# EAGLE library part TVS_ESD_4CH_6P (library !GPLIB_ACTIVE)
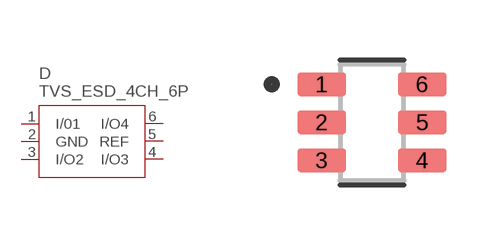
[diagram p93: symbol with the pads of SOT95P280X145-6N; footprint SOT95P280X145-6N]

Designator prefix D

## TVS_ESD_4CH_6P_SRV05-4-P-T7  [SOT95P280X145-6N]
1  I/01
2  GND  pwr
3  I/O2
4  I/O3
5  REF  pwr
6  I/O4

## Footprint SOT95P280X145-6N (pad centres in mm)
smd 1.21 x 0.58: 1 -1.255,0.95; 2 -1.255,0; 3 -1.255,-0.95; 4 1.255,-0.95; 5 1.255,0; 6 1.255,0.95